# EAGLE library part LM3407 (library thomas_library)
The LM3407 is a 350mA constant-current LED driver from National Semiconductor
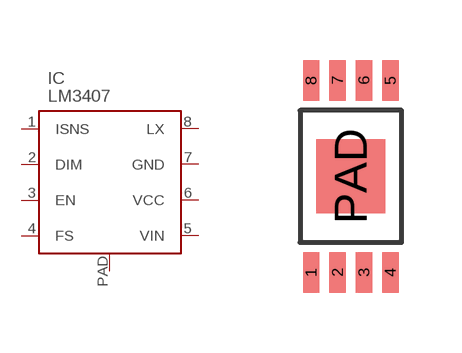
[diagram p3: symbol with the pads of MSOP_8_PAD; footprint MSOP_8_PAD]

Designator prefix IC

## LM3407  [MSOP_8_PAD]
1  ISNS
2  DIM
3  EN
4  FS
5  VIN  pwr
6  VCC
7  GND  pwr
8  LX
PAD  GNDP  pwr

## Footprint MSOP_8_PAD (pad centres in mm)
This MSOP-8 footprint has a 1.85mm x 1.73mm thermal pad, 0.41mm x 1.02mm pin pads, 0.65mm spacing, 4.8mm diameter
smd 0.406 x 1.016: 1 -0.991,-2.4; 2 -0.33,-2.4; 3 0.33,-2.4; 4 0.991,-2.4; 5 0.991,2.4; 6 0.33,2.4; 7 -0.33,2.4; 8 -0.991,2.4
smd 1.727 x 1.854: PAD 0,0